# Altium schematic symbol library STC12C5A60S2.SCHLIB: 2 symbols
Pins are listed as number, name and electrical type; pins without a type are passive.

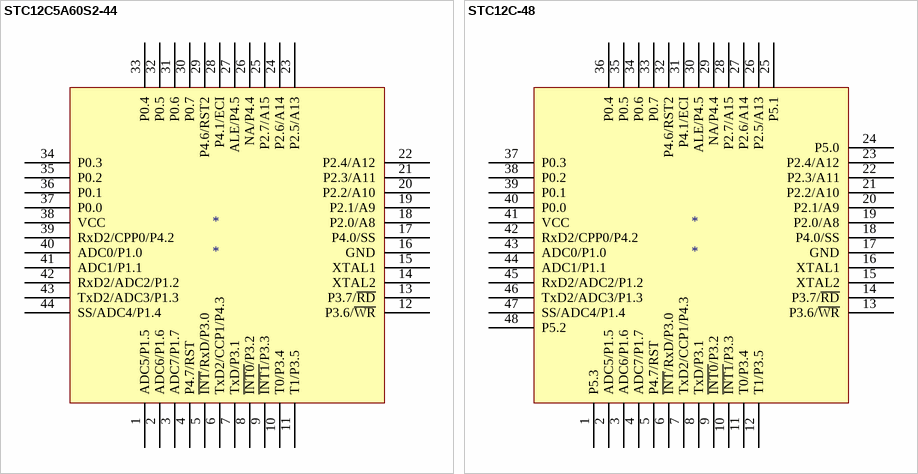
[diagram p0: symbols STC12C5A60S2-44 to STC12C-48]

## STC12C5A60S2-44
designator *
pins: 1 ADC5/P1.5, 2 ADC6/P1.6, 3 ADC7/P1.7, 4 P4.7/RST, 5 ~{INT}/RxD/P3.0, 6 TxD2/CCP1/P4.3, 7 TxD/P3.1, 8 ~{INT0}/P3.2, 9 ~{INT1}/P3.3, 10 T0/P3.4, 11 T1/P3.5, 12 P3.6/~{WR}, 13 P3.7/~{RD}, 14 XTAL2, 15 XTAL1, 16 GND, 17 P4.0/SS, 18 P2.0/A8, 19 P2.1/A9, 20 P2.2/A10, 21 P2.3/A11, 22 P2.4/A12, 23 P2.5/A13, 24 P2.6/A14, 25 P2.7/A15, 26 NA/P4.4, 27 ALE/P4.5, 28 P4.1/ECI, 29 P4.6/RST2, 30 P0.7, 31 P0.6, 32 P0.5, 33 P0.4, 34 P0.3, 35 P0.2, 36 P0.1, 37 P0.0, 38 VCC, 39 RxD2/CPP0/P4.2, 40 ADC0/P1.0, 41 ADC1/P1.1, 42 RxD2/ADC2/P1.2, 43 TxD2/ADC3/P1.3, 44 SS/ADC4/P1.4

## STC12C-48
designator *
pins: 1 P5.3, 2 ADC5/P1.5, 3 ADC6/P1.6, 4 ADC7/P1.7, 5 P4.7/RST, 6 ~{INT}/RxD/P3.0, 7 TxD2/CCP1/P4.3, 8 TxD/P3.1, 9 ~{INT0}/P3.2, 10 ~{INT1}/P3.3, 11 T0/P3.4, 12 T1/P3.5, 13 P3.6/~{WR}, 14 P3.7/~{RD}, 15 XTAL2, 16 XTAL1, 17 GND, 18 P4.0/SS, 19 P2.0/A8, 20 P2.1/A9, 21 P2.2/A10, 22 P2.3/A11, 23 P2.4/A12, 24 P5.0, 25 P5.1, 26 P2.5/A13, 27 P2.6/A14, 28 P2.7/A15, 29 NA/P4.4, 30 ALE/P4.5, 31 P4.1/ECI, 32 P4.6/RST2, 33 P0.7, 34 P0.6, 35 P0.5, 36 P0.4, 37 P0.3, 38 P0.2, 39 P0.1, 40 P0.0, 41 VCC, 42 RxD2/CPP0/P4.2, 43 ADC0/P1.0, 44 ADC1/P1.1, 45 RxD2/ADC2/P1.2, 46 TxD2/ADC3/P1.3, 47 SS/ADC4/P1.4, 48 P5.2